# EAGLE library part IS31BL3506A (library we-power)
ISSI IS31BL3506A Step-Up for LED Backlight Input: 2.7...5V Output: up to 35V 300mV Feedback Voltage
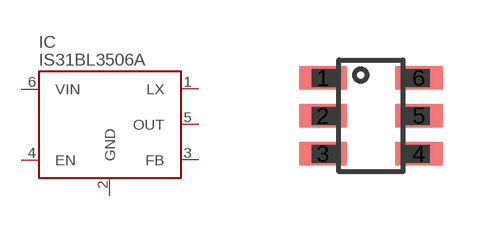
[diagram p0: symbol with the pads of SOT23-6; footprint SOT23-6]

Designator prefix IC

## IS31BL3506A-TTLS2 (DIGIKEY: 706-1213-6-ND)  [SOT23-6]
1  LX  pas
2  GND  pwr
3  FB  pas
4  EN  in
5  OUT  pas
6  VIN  pwr

## Footprint SOT23-6 (pad centres in mm)
smd 1.2 x 0.6: 1 -1.2,0.95; 2 -1.2,0; 3 -1.2,-0.95; 4 1.2,-0.95; 5 1.2,0; 6 1.2,0.95